# EAGLE library part 1432УД27 (library operational-amplifier)
АЕЯР.431100.280-14 ТУ 1432УД27У - сверхбыстродействующий широкополосный операционный усилитель с токовой обратной связью и с функцией выключения. Предназначен для применения в приемных трактах устройств связи и РЛС, в системах автоматического контроля и регулирования, в системах обработки аналоговых и анало-го-цифровых сигналов Достоинства: ► Полоса пропускания 1000 МГц ► Максимальная скорость нарастания выходного сигнала 3200 В/мкс ► Ток потребления 15 мА ► Время установления 20 нс Основные электрические параметры, T=25 °C Параметры, единица измерения Условия Напряжение питания при двухполярном питании (Uп=±5В) при однополярном питании (Uп=5В) Min Тип Max Min тип max Максимальное выходное напряжения, В Uвх=Uп |±3,9| - - от 1,6 до 3,4 от1,15 до 3,85 - Напряжение смещения нуля, мВ Uвх=0 - - 10 - 10 Ток потребления, мА Uвх=0 - 14,3 15 - 13 14 Ток потребления в состоянии «выключено», мА Uвх=0 - 1,65 2,0 - 1,25 1,5 Входной ток по неинвертирующему входу, мкА Uвх=0 - 4,0 5,0 - 3,0 5,0 Входной ток по инвертирующему входу, мкА Uвх=0 - - 45 - - 45 Коэффициент ослабления синфазных входных напряжений, дБ Uвх=2В 50 52 - 49 51 - Коэффициент преобразования, дБ Uвх=2В 200 - - 180 - - Верхняя граничная частота полосы пропускания, МГц Uвых=0,2В 1000 - - 500 - - Максимальная скорость нарастания выходного напряжения, В/мкс Uвых=0,2В 3000 3200 - 2000 - - Время установления выходного напряжения (до уровня 0,1%), нс Uвых=1В Uвых=2В - - - - - 20 - - - - 20 - Производитель: ОАО «НПП «ПУЛЬСАР», г. Москва.
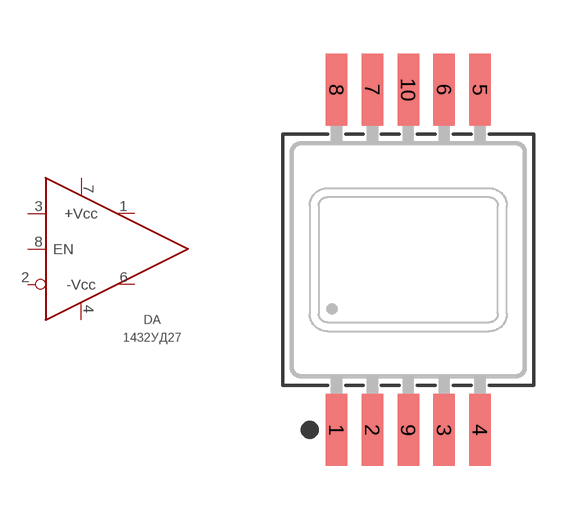
[diagram p8: symbol with the pads of H02.8-1B; footprint H02.8-1B]

Designator prefix DA

## 1432УД27У  [H02.8-1B]
1  OUT1  out
2  IN-  in
3  IN+  in
4  -VCC  pwr
6  OUT2  out
7  +VCC  pwr
8  EN  in

## Footprint H02.8-1B (pad centres in mm)
smd 0.6 x 2: 1 -2,-4.75; 2 -1,-4.75; 3 1,-4.75; 4 2,-4.75; 5 2,4.75; 6 1,4.75; 7 -1,4.75; 8 -2,4.75; 9 0,-4.75; 10 0,4.75